# Altium schematic symbol library Schlib10.SchLib: 1 symbol
Pins are listed as number, name and electrical type; pins without a type are passive.

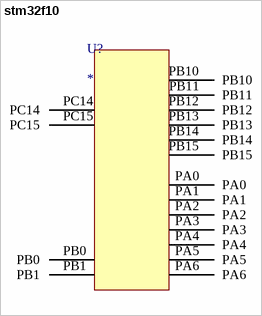
[diagram p0: symbol stm32f10]

## stm32f10
designator U?
pins: PA0, PA1, PA2, PA3, PA4, PA5, PA6, PB0, PB1, PB10, PB11, PB12, PB13, PB14, PB15, PC14, PC15